# EAGLE library part 10051922-3010ELF (library FCI-tkr)
FFC/FPC CONNECTOR, 30POS, 1ROW
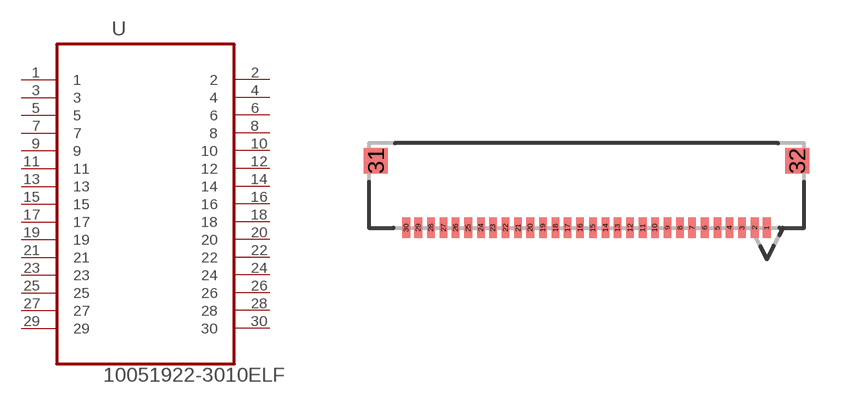
[diagram p3: symbol with the pads of FCI_10051922-3010ELF; footprint FCI_10051922-3010ELF]

Designator prefix U

## 10051922-3010ELF (MPN: 10051922-3010ELF; OC_FARNELL: 1824568; OC_NEWARK: 95M0583; PACKAGE: CONNECTOR - 30POS; SUPPLIER: FCI)  [FCI_10051922-3010ELF]
1  1  pas
2  2  pas
3  3  pas
4  4  pas
5  5  pas
6  6  pas
7  7  pas
8  8  pas
9  9  pas
10  10  pas
11  11  pas
12  12  pas
13  13  pas
14  14  pas
15  15  pas
16  16  pas
17  17  pas
18  18  pas
19  19  pas
20  20  pas
21  21  pas
22  22  pas
23  23  pas
24  24  pas
25  25  pas
26  26  pas
27  27  pas
28  28  pas
29  29  pas
30  30  pas

## Footprint FCI_10051922-3010ELF (pad centres in mm)
smd 0.305 x 0.813: 1 7.239,1.702; 2 6.756,1.702; 3 6.248,1.702; 4 5.74,1.702; 5 5.258,1.702; 6 4.75,1.702; 7 4.242,1.702; 8 3.759,1.702; 9 3.251,1.702; 10 2.743,1.702; 11 2.261,1.702; 12 1.753,1.702; 13 1.245,1.702; 14 0.762,1.702; 15 0.254,1.702; 16 -0.254,1.702; 17 -0.762,1.702; 18 -1.245,1.702; 19 -1.753,1.702; 20 -2.261,1.702; 21 -2.743,1.702; 22 -3.251,1.702; 23 -3.759,1.702; 24 -4.242,1.702; 25 -4.75,1.702; 26 -5.258,1.702; 27 -5.74,1.702; 28 -6.248,1.702; 29 -6.756,1.702; 30 -7.239,1.702
smd 0.965 x 1.016: 31 -8.458,4.394; 32 8.458,4.394